# Altium footprint library Диоды-mm.PcbLib: 54 footprints (part 3 of 4)
Each footprint in its own frame and in the unit in brackets; x right, y up, seen from the top. Pads: shape width x height; smd on the part's side, far side on the other; paste and mask are expansions set on the pad; w line width, h text height; cw(c..) or ccw(c..) is an arc to the next point about the centre after c.
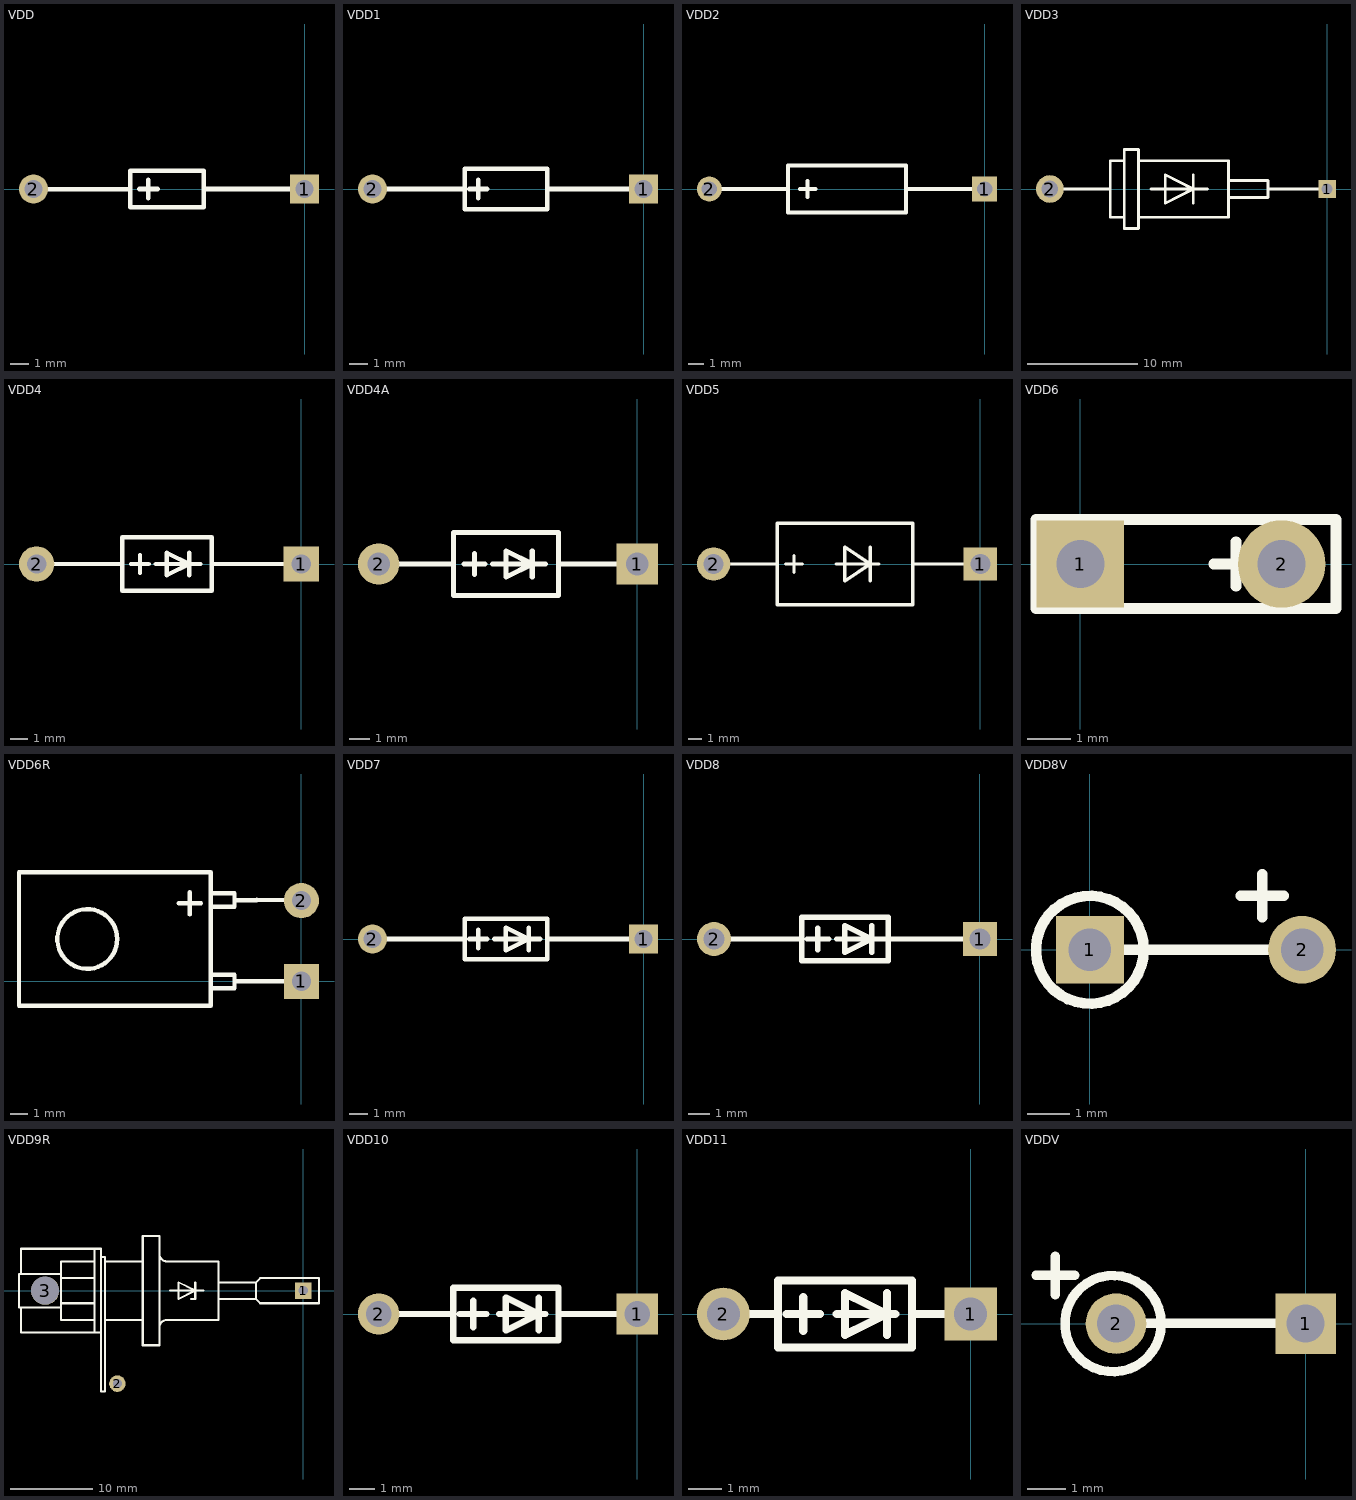
[diagram p2: the footprints below, top view; thin cyan lines are the x and y axes]

## VDD [mm]
pads (2):
  rect 1.6x1.6 hole 1: 1(0,0)
  round 1.6 hole 1: 2(-15,0)
Top Overlay:
  lines w0.25: -14.47,-0.02 -9.652,0 ; -9.144,0 -8.128,0 ; -8.636,-0.508 -8.636,0.508 ; -5.588,0 -0.41,0 ; -9.652,-1.016 -5.588,-1.016 -5.588,1.016 -9.652,1.016 -9.652,-1.016

## VDD1 [mm]
pads (2):
  rect 1.6x1.6 hole 1: 1(0,0)
  round 1.6 hole 1: 2(-15,0)
Top Overlay:
  lines w0.25: -14.7,0 -9.906,0 ; -9.652,0 -8.636,0 ; -9.144,-0.508 -9.144,0.508 ; -5.334,0 -0.46,0 ; -9.906,-1.118 -5.334,-1.118 -5.334,1.118 -9.906,1.118 -9.906,-1.118

## VDD2 [mm]
pads (2):
  rect 1.6x1.6 hole 1: 1(0,0)
  round 1.6 hole 1: 2(-17.78,0)
Top Overlay:
  lines w0.25: -17.35,0 -12.7,0 ; -11.938,0 -10.922,0 ; -11.43,-0.508 -11.43,0.508 ; -5.08,0 -0.56,0 ; -12.7,-1.524 -5.08,-1.524 -5.08,1.524 -12.7,1.524 -12.7,-1.524

## VDD3 [mm]
pads (2):
  rect 1.6x1.6 hole 1: 1(0,0)
  round 2.5 hole 1.5: 2(-25,0)
Top Overlay:
  lines w0.25: -24.46,0 -19.558,0 ; -18.288,-2.54 -19.558,-2.54 -19.558,2.54 -18.288,2.54 ; -17.018,-2.54 -8.89,-2.54 -8.89,2.54 -17.018,2.54 ; -15.875,0 -10.795,0 ; -12.065,-1.27 -12.065,1.27 ; -8.89,-0.762 -5.334,-0.762 -5.334,0.762 -8.89,0.762 ; -5.334,0 -0.62,0 ; -18.288,-3.556 -18.288,3.556 -17.018,3.556 -17.018,-3.556 -18.288,-3.556 ; -14.605,-1.27 -12.065,0 -14.605,1.27 -14.605,-1.27

## VDD4 [mm]
pads (2):
  rect 2x2 hole 1.1: 1(0,0)
  round 2 hole 1.1: 2(-15,0)
Top Overlay:
  lines w0.25: -14.18,0.005 -10.16,0 ; -9.652,0 -8.636,0 ; -9.144,-0.508 -9.144,0.508 ; -8.255,0 -5.715,0 ; -6.35,-0.635 -6.35,0.635 ; -5.08,0 -0.82,0.01 ; -10.16,-1.524 -5.08,-1.524 -5.08,1.524 -10.16,1.524 -10.16,-1.524 ; -7.62,-0.635 -6.35,0 -7.62,0.635 -7.62,-0.635

## VDD4A [mm]
pads (2):
  rect 2x2 hole 1.1: 1(0,0)
  round 2 hole 1.1: 2(-12.5,0)
Top Overlay:
  lines w0.25: -11.94,0.01 -8.89,0 ; -8.382,0 -7.366,0 ; -7.874,-0.508 -7.874,0.508 ; -6.985,0 -4.445,0 ; -5.08,-0.635 -5.08,0.635 ; -3.81,0 -0.52,0 ; -8.89,-1.524 -3.81,-1.524 -3.81,1.524 -8.89,1.524 -8.89,-1.524 ; -6.35,-0.635 -5.08,0 -6.35,0.635 -6.35,-0.635

## VDD5 [mm]
pads (2):
  rect 2.5x2.5 hole 1.5: 1(0,0)
  round 2.5 hole 1.5: 2(-20,0)
Top Overlay:
  lines w0.25: -19.66,0 -15.24,0 ; -14.605,0 -13.335,0 ; -13.97,-0.635 -13.97,0.635 ; -10.795,0 -7.62,0 ; -8.255,-1.27 -8.255,1.27 ; -5.08,0 -0.73,0 ; -15.24,-3.048 -5.08,-3.048 -5.08,3.048 -15.24,3.048 -15.24,-3.048 ; -10.16,-1.27 -8.255,0 -10.16,1.27 -10.16,-1.27

## VDD6 [mm]
pads (2):
  rect 2x2 hole 1.1: 1(0,0)
  round 2 hole 1.1: 2(4.6,0)
Top Overlay:
  lines w0.25: 3.048,0 4.064,0 ; 3.556,-0.508 3.556,0.508 ; -1.016,-1.016 5.842,-1.016 5.842,1.016 -1.016,1.016 -1.016,-1.016

## VDD6R [mm]
pads (2):
  rect 2x2 hole 1.1: 1(0,0)
  round 2 hole 1.1: 2(0,4.6)
Top Overlay:
  circle w0.25: c-12.192,2.413 r1.702
  lines w0.25: -6.985,4.445 -5.715,4.445 ; -6.35,3.81 -6.35,5.08 ; -5.156,-0.381 -3.81,-0.381 -3.81,0.381 -5.156,0.381 ; -5.156,4.245 -3.81,4.245 -3.81,5.007 -5.156,5.007 ; -3.81,0 -2.54,0 -0.7,0 ; -3.81,4.626 -2.54,4.626 ; -2.54,4.646 -0.68,4.63 ; -16.078,-1.397 -5.156,-1.397 -5.156,6.223 -16.078,6.223 -16.078,-1.397

## VDD7 [mm]
pads (2):
  rect 1.6x1.6 hole 1: 1(0,0)
  round 1.6 hole 1: 2(-15,0)
Top Overlay:
  lines w0.25: -14.55,0 -9.906,0 ; -9.652,0 -8.636,0 ; -9.144,-0.508 -9.144,0.508 ; -8.255,0 -5.715,0 ; -6.35,-0.635 -6.35,0.635 ; -5.334,0 -0.61,0 ; -9.906,-1.118 -5.334,-1.118 -5.334,1.118 -9.906,1.118 -9.906,-1.118 ; -7.62,-0.635 -6.35,0 -7.62,0.635 -7.62,-0.635

## VDD8 [mm]
pads (2):
  rect 1.6x1.6 hole 1: 1(0,0)
  round 1.6 hole 1: 2(-12.5,0)
Top Overlay:
  lines w0.25: -12.09,0 -8.382,0 ; -8.128,0 -7.112,0 ; -7.62,-0.508 -7.62,0.508 ; -6.731,0 -6.35,0 -4.445,0 ; -5.08,-0.635 -5.08,0.635 ; -4.318,0 -0.45,0 ; -8.382,-1.016 -4.318,-1.016 -4.318,1.016 -8.382,1.016 -8.382,-1.016 ; -6.35,-0.635 -5.08,0 -6.35,0.635 -6.35,-0.635

## VDD8V [mm]
pads (2):
  rect 1.6x1.6 hole 1: 1(0,0)
  round 1.6 hole 1: 2(5,0)
Top Overlay:
  circle w0.25: c0,0 r1.27
  lines w0.25: 0,0 4.5,0 ; 3.556,1.27 4.572,1.27 ; 4.064,0.762 4.064,1.778

## VDD9R [mm]
pads (3):
  rect 2x2 hole 1.1: 1(0,0)
  round 2 hole 1.1: 2(-22.5,-11.25)
  round 3.4 hole 3.4 unplated: 3(-31.25,0)
Top Overlay:
  lines w0.25: -34.163,-2.032 -34.163,-5.08 -25.273,-5.08 ; -34.163,2.032 -34.163,5.08 -25.273,5.08 ; -29.337,-1.524 -25.273,-1.524 ; -29.337,1.524 -25.273,1.524 ; -24.003,-3.556 -19.431,-3.556 ; -24.003,3.556 -19.431,3.556 ; -17.399,-4.573 cw(c-16.51,-4.445) -16.382,-3.556 ; -17.399,4.573 ccw(c-16.51,4.445) -16.382,3.556 ; -16.383,-3.556 -10.287,-3.556 -10.287,3.556 -16.383,3.556 ; -16.129,0 -12.065,0 ; -13.589,-1.016 -13.081,-1.016 -13.081,1.016 ; -10.287,-1.016 -5.715,-1.016 ; -10.287,1.016 -5.715,1.016 ; 0.67,-0.011 cw(c-0.007,0) 0.67,0 ; -29.337,-2.032 -34.417,-2.032 -34.417,2.032 -29.337,2.032 ; -29.337,-2.032 -29.337,-3.556 -25.273,-3.556 -25.273,3.556 -29.337,3.556 -29.337,2.032 ; -29.337,-2.032 -29.337,2.032 ; -25.273,-5.08 -25.273,5.08 ; -25.273,-5.08 -24.511,-5.08 -24.511,5.08 -25.273,5.08 ; -19.431,-3.556 -19.431,3.556 ; -19.431,-3.556 -19.431,-6.604 -17.399,-6.604 -17.399,6.604 -19.431,6.604 -19.431,3.556 ; -5.715,-1.016 -5.715,1.016 ; -5.715,-1.016 -5.207,-1.524 1.905,-1.524 1.905,1.524 -5.207,1.524 -5.715,1.016 ; -24.511,-12.192 -24.511,3.556 -24.511,4.064 -24.003,4.064 -24.003,-12.192 -24.511,-12.192 ; -15.113,-1.016 -13.081,0 -15.113,1.016 -15.113,-1.016

## VDD10 [mm]
pads (2):
  rect 1.6x1.6 hole 1: 1(0,0)
  round 1.6 hole 1: 2(-10,0)
Top Overlay:
  lines w0.25: -9.51,0 -7.112,0 ; -6.858,0 -5.842,0 ; -6.35,-0.508 -6.35,0.508 ; -5.334,0 -3.556,0 ; -3.81,-0.635 -3.81,0.635 ; -3.048,0 -0.44,0 ; -7.112,-1.016 -3.048,-1.016 -3.048,1.016 -7.112,1.016 -7.112,-1.016 ; -5.08,-0.635 -3.81,0 -5.08,0.635 -5.08,-0.635

## VDD11 [mm]
pads (2):
  rect 1.6x1.6 hole 1: 1(0,0)
  round 1.6 hole 1: 2(-7.5,0)
Top Overlay:
  lines w0.25: -7.16,0 -5.842,0 ; -5.588,0 -4.572,0 ; -5.08,-0.508 -5.08,0.508 ; -4.064,0 -2.286,0 ; -2.54,-0.635 -2.54,0.635 ; -1.778,0 -0.39,0 ; -5.842,-1.016 -1.778,-1.016 -1.778,1.016 -5.842,1.016 -5.842,-1.016 ; -3.81,-0.635 -2.54,0 -3.81,0.635 -3.81,-0.635

## VDDV [mm]
pads (2):
  rect 1.6x1.6 hole 1: 1(0,0)
  round 1.6 hole 1: 2(-5,0)
Top Overlay:
  circle w0.25: c-5.08,0 r1.27
  lines w0.25: -7.112,1.27 -6.096,1.27 ; -6.604,0.762 -6.604,1.778 ; -4.77,0.01 -0.42,0.01